# EAGLE library part PC (library Transformer)
Low Power Miniature Transformer | 1VA Power | 115V Input | 10VCT Output Series Datasheet <https://belfuse.com/resources/datasheets/signaltransformer/ds-st-pc-series.pdf>
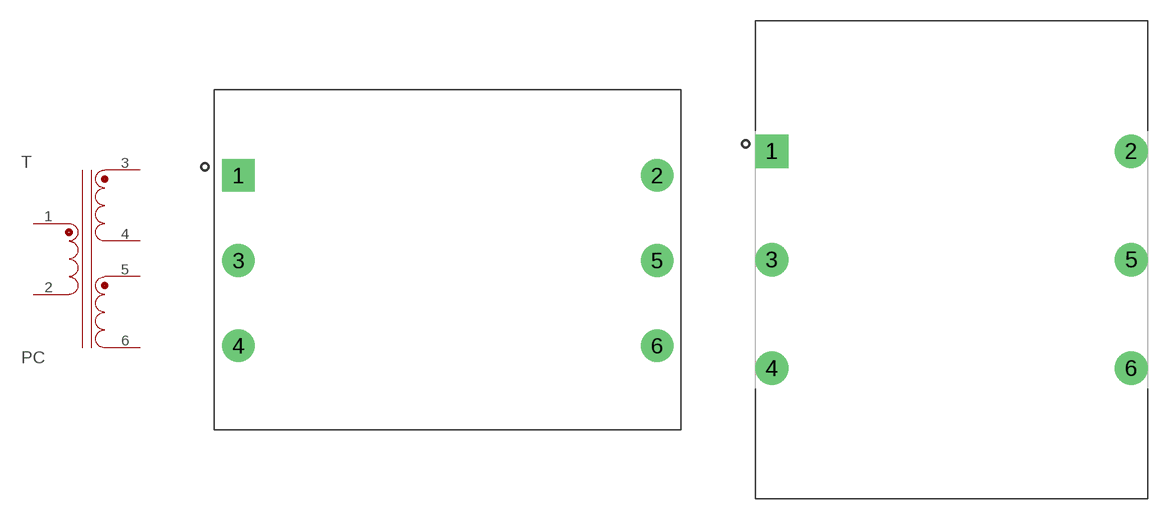
[diagram p4: symbol with the pads of XFMR_PC-1.0; footprints XFMR_PC-1.0, XFMR_PC-1.2]

Designator prefix T

## PC-10-90_1.0 (CATEGORY: Transformer; MANUFACTURER: Signal Transformer; MPN: PC-10-90; PART_STATUS: ACTIVE; ROHS_COMPLIANT: COMPLIANT; SERIES: PC; SUB_CATEGORY: Power; TYPE: Transformers; VALUE: PC-10-90), PC-12-70_1.0 (CATEGORY: Transformer; MANUFACTURER: Signal Transformer; MPN: PC-12-70; PART_STATUS: ACTIVE; ROHS_COMPLIANT: COMPLIANT; SERIES: PC; SUB_CATEGORY: Power; TYPE: Transformers; VALUE: PC-12-70), PC-120-8_1.0 (CATEGORY: Transformer; MANUFACTURER: Signal Transformer; MPN: PC-120-8; PART_STATUS: ACTIVE; ROHS_COMPLIANT: COMPLIANT; SERIES: PC; SUB_CATEGORY: Power; TYPE: Transformers; VALUE: PC-120-8), PC-16-55_1.0 (CATEGORY: Transformer; MANUFACTURER: Signal Transformer; MPN: PC-16-55; PART_STATUS: ACTIVE; ROHS_COMPLIANT: COMPLIANT; SERIES: PC; SUB_CATEGORY: Power; TYPE: Transformers; VALUE: PC-16-55), PC-20-45_1.0 (CATEGORY: Transformer; MANUFACTURER: Signal Transformer; MPN: PC-20-45; PART_STATUS: ACTIVE; ROHS_COMPLIANT: COMPLIANT; SERIES: PC; SUB_CATEGORY: Power; TYPE: Transformers; VALUE: PC-20-45), PC-24-35_1.0 (CATEGORY: Transformer; MANUFACTURER: Signal Transformer; MPN: PC-24-35; PART_STATUS: ACTIVE; ROHS_COMPLIANT: COMPLIANT; SERIES: PC; SUB_CATEGORY: Power; TYPE: Transformers; VALUE: PC-24-35), PC-28-30_1.0 (CATEGORY: Transformer; MANUFACTURER: Signal Transformer; MPN: PC-28-30; PART_STATUS: ACTIVE; ROHS_COMPLIANT: COMPLIANT; SERIES: PC; SUB_CATEGORY: Power; TYPE: Transformers; VALUE: PC-28-30), PC-34-25_1.0 (CATEGORY: Transformer; MANUFACTURER: Signal Transformer; MPN: PC-34-25; PART_STATUS: ACTIVE; ROHS_COMPLIANT: COMPLIANT; SERIES: PC; SUB_CATEGORY: Power; TYPE: Transformers; VALUE: PC-34-25), PC-40-20_1.0 (CATEGORY: Transformer; MANUFACTURER: Signal Transformer; MPN: PC-40-20; PART_STATUS: ACTIVE; ROHS_COMPLIANT: COMPLIANT; SERIES: PC; SUB_CATEGORY: Power; TYPE: Transformers; VALUE: PC-40-20), PC-56-15_1.0 (CATEGORY: Transformer; MANUFACTURER: Signal Transformer; MPN: PC-56-15; PART_STATUS: ACTIVE; ROHS_COMPLIANT: COMPLIANT; SERIES: PC; SUB_CATEGORY: Power; TYPE: Transformers; VALUE: PC-56-15)  [XFMR_PC-1.0]
1  1  pas
2  2  pas
3  3  pas
4  4  pas
5  5  pas
6  6  pas

## PC-10-120_1.2 (CATEGORY: Transformer; MANUFACTURER: Signal Transformer; MPN: PC-10-120; PART_STATUS: ACTIVE; ROHS_COMPLIANT: COMPLIANT; SERIES: PC; SUB_CATEGORY: Power; TYPE: TRANSFORMER; VALUE: PC-10-120), PC-12-100_1.2 (CATEGORY: Transformer; MANUFACTURER: Signal Transformer; MPN: PC-12-100; PART_STATUS: ACTIVE; ROHS_COMPLIANT: COMPLIANT; SERIES: PC; SUB_CATEGORY: Power; TYPE: TRANSFORMER; VALUE: PC-12-100), PC-120-10_1.2 (CATEGORY: Transformer; MANUFACTURER: Signal Transformer; MPN: PC-120-10; PART_STATUS: ACTIVE; ROHS_COMPLIANT: COMPLIANT; SERIES: PC; SUB_CATEGORY: Power; TYPE: TRANSFORMER; VALUE: PC-120-10), PC-16-75_1.2 (CATEGORY: Transformer; MANUFACTURER: Signal Transformer; MPN: PC-16-75; PART_STATUS: ACTIVE; ROHS_COMPLIANT: COMPLIANT; SERIES: PC; SUB_CATEGORY: Power; TYPE: TRANSFORMER; VALUE: PC-16-75), PC-20-60_1.2 (CATEGORY: Transformer; MANUFACTURER: Signal Transformer; MPN: PC-20-60; PART_STATUS: ACTIVE; ROHS_COMPLIANT: COMPLIANT; SERIES: PC; SUB_CATEGORY: Power; TYPE: TRANSFORMER; VALUE: PC-20-60), PC-24-50_1.2 (CATEGORY: Transformer; MANUFACTURER: Signal Transformer; MPN: PC-24-50; PART_STATUS: ACTIVE; ROHS_COMPLIANT: COMPLIANT; SERIES: PC; SUB_CATEGORY: Power; TYPE: TRANSFORMER; VALUE: PC-24-50), PC-28-40_1.2 (CATEGORY: Transformer; MANUFACTURER: Signal Transformer; MPN: PC-28-40; PART_STATUS: ACTIVE; ROHS_COMPLIANT: COMPLIANT; SERIES: PC; SUB_CATEGORY: Power; TYPE: TRANSFORMER; VALUE: PC-28-40), PC-34-35_1.2 (CATEGORY: Transformer; MANUFACTURER: Signal Transformer; MPN: PC-34-35; PART_STATUS: ACTIVE; ROHS_COMPLIANT: COMPLIANT; SERIES: PC; SUB_CATEGORY: Power; TYPE: TRANSFORMER; VALUE: PC-34-35), PC-40-30_1.2 (CATEGORY: Transformer; MANUFACTURER: Signal Transformer; MPN: PC-40-30; PART_STATUS: ACTIVE; ROHS_COMPLIANT: COMPLIANT; SERIES: PC; SUB_CATEGORY: Power; TYPE: TRANSFORMER; VALUE: PC-40-30), PC-56-20_1.2 (CATEGORY: Transformer; MANUFACTURER: Signal Transformer; MPN: PC-56-20; PART_STATUS: ACTIVE; ROHS_COMPLIANT: COMPLIANT; SERIES: PC; SUB_CATEGORY: Power; TYPE: TRANSFORMER; VALUE: PC-56-20)  [XFMR_PC-1.2]
Pads as for XFMR_PC-1.0

## PC-10-440_4.4 (CATEGORY: Transformer; MANUFACTURER: Signal Transformer; MPN: PC-10-440; PART_STATUS: ACTIVE; ROHS_COMPLIANT: COMPLIANT; SERIES: PC; SUB_CATEGORY: Power; TYPE: TRANSFORMER; VALUE: PC-10-440), PC-12-350_4.4 (CATEGORY: Transformer; MANUFACTURER: Signal Transformer; MPN: PC-12-350; PART_STATUS: ACTIVE; ROHS_COMPLIANT: COMPLIANT; SERIES: PC; SUB_CATEGORY: Power; TYPE: TRANSFORMER; VALUE: PC-12-350), PC-120-35_4.4 (CATEGORY: Transformer; MANUFACTURER: Signal Transformer; MPN: PC-120-35; PART_STATUS: ACTIVE; ROHS_COMPLIANT: COMPLIANT; SERIES: PC; SUB_CATEGORY: Power; TYPE: TRANSFORMER; VALUE: PC-120-35), PC-16-260_4.4 (CATEGORY: Transformer; MANUFACTURER: Signal Transformer; MPN: PC-16-260; PART_STATUS: ACTIVE; ROHS_COMPLIANT: COMPLIANT; SERIES: PC; SUB_CATEGORY: Power; TYPE: TRANSFORMER; VALUE: PC-16-260), PC-20-220_4.4 (CATEGORY: Transformer; MANUFACTURER: Signal Transformer; MPN: PC-20-220; PART_STATUS: ACTIVE; ROHS_COMPLIANT: COMPLIANT; SERIES: PC; SUB_CATEGORY: Power; TYPE: TRANSFORMER; VALUE: PC-20-220), PC-24-180_4.4 (CATEGORY: Transformer; MANUFACTURER: Signal Transformer; MPN: PC-24-180; PART_STATUS: ACTIVE; ROHS_COMPLIANT: COMPLIANT; SERIES: PC; SUB_CATEGORY: Power; TYPE: TRANSFORMER; VALUE: PC-24-180), PC-28-160_4.4 (CATEGORY: Transformer; MANUFACTURER: Signal Transformer; MPN: PC-28-160; PART_STATUS: ACTIVE; ROHS_COMPLIANT: COMPLIANT; SERIES: PC; SUB_CATEGORY: Power; TYPE: TRANSFORMER; VALUE: PC-28-160), PC-34-125_4.4 (CATEGORY: Transformer; MANUFACTURER: Signal Transformer; MPN: PC-34-125; PART_STATUS: ACTIVE; ROHS_COMPLIANT: COMPLIANT; SERIES: PC; SUB_CATEGORY: Power; TYPE: TRANSFORMER; VALUE: PC-34-125), PC-40-110_4.4 (CATEGORY: Transformer; MANUFACTURER: Signal Transformer; MPN: PC-40-110; PART_STATUS: ACTIVE; ROHS_COMPLIANT: COMPLIANT; SERIES: PC; SUB_CATEGORY: Power; TYPE: TRANSFORMER; VALUE: PC-40-110), PC-56-80_4.4 (CATEGORY: Transformer; MANUFACTURER: Signal Transformer; MPN: PC-56-80; PART_STATUS: ACTIVE; ROHS_COMPLIANT: COMPLIANT; SERIES: PC; SUB_CATEGORY: Power; TYPE: TRANSFORMER; VALUE: PC-56-80)  [XFMR_PC-4.4]
Pads as for XFMR_PC-1.0

## PC-10-1000_10.0 (CATEGORY: Transformer; MANFACTURER: Signal Transformer; MPN: PC-10-1000; PART_STATUS: ACTIVE; ROHS_COMPLIANT: COMPLIANT; SERIES: PC; SUB_CATEGORY: Power; TYPE: TRANSFORMER; VALUE: PC-10-1000), PC-12-800_10.0 (CATEGORY: Transformer; MANFACTURER: Signal Transformer; MPN: PC-12-800; PART_STATUS: ACTIVE; ROHS_COMPLIANT: COMPLIANT; SERIES: PC; SUB_CATEGORY: Power; TYPE: TRANSFORMER; VALUE: PC-12-800), PC-120-85_10.0 (CATEGORY: Transformer; MANFACTURER: Signal Transformer; MPN: PC-120-85; PART_STATUS: ACTIVE; ROHS_COMPLIANT: COMPLIANT; SERIES: PC; SUB_CATEGORY: Power; TYPE: TRANSFORMER; VALUE: PC-120-85), PC-16-640_10.0 (CATEGORY: Transformer; MANFACTURER: Signal Transformer; MPN: PC-16-640; PART_STATUS: ACTIVE; ROHS_COMPLIANT: COMPLIANT; SERIES: PC; SUB_CATEGORY: Power; TYPE: TRANSFORMER; VALUE: PC-16-640), PC-20-500_10.0 (CATEGORY: Transformer; MANFACTURER: Signal Transformer; MPN: PC-20-500; PART_STATUS: ACTIVE; ROHS_COMPLIANT: COMPLIANT; SERIES: PC; SUB_CATEGORY: Power; TYPE: TRANSFORMER; VALUE: PC-20-500), PC-24-450_10.0 (CATEGORY: Transformer; MANFACTURER: Signal Transformer; MPN: PC-24-450; PART_STATUS: ACTIVE; ROHS_COMPLIANT: COMPLIANT; SERIES: PC; SUB_CATEGORY: Power; TYPE: TRANSFORMER; VALUE: PC-24-450), PC-28-360_10.0 (CATEGORY: Transformer; MANFACTURER: Signal Transformer; MPN: PC-28-360; PART_STATUS: ACTIVE; ROHS_COMPLIANT: COMPLIANT; SERIES: PC; SUB_CATEGORY: Power; TYPE: TRANSFORMER; VALUE: PC-28-360), PC-34-300_10.0 (CATEGORY: Transformer; MANFACTURER: Signal Transformer; MPN: PC-34-300; PART_STATUS: ACTIVE; ROHS_COMPLIANT: COMPLIANT; SERIES: PC; SUB_CATEGORY: Power; TYPE: TRANSFORMER; VALUE: PC-34-300), PC-40-250_10.0 (CATEGORY: Transformer; MANFACTURER: Signal Transformer; MPN: PC-40-250; PART_STATUS: ACTIVE; ROHS_COMPLIANT: COMPLIANT; SERIES: PC; SUB_CATEGORY: Power; TYPE: TRANSFORMER; VALUE: PC-40-250), PC-56-180_10.0 (CATEGORY: Transformer; MANFACTURER: Signal Transformer; MPN: PC-56-180; PART_STATUS: ACTIVE; ROHS_COMPLIANT: COMPLIANT; SERIES: PC; SUB_CATEGORY: Power; TYPE: TRANSFORMER; VALUE: PC-56-180)  [XFMR_PC-10.0]
Pads as for XFMR_PC-1.0

## PC-10-2400_24.0 (CATEGORY: Transformer; MANUFACTURER: Signal Transformer; MPN: PC-10-2400; PART_STATUS: ACTIVE; ROHS_COMPLIANT: COMPLIANT; SERIES: PC; SUB_CATEGORY: Power; TYPE: TRANSFORMER; VALUE: PC-10-2400), PC-12-2000_24.0 (CATEGORY: Transformer; MANUFACTURER: Signal Transformer; MPN: PC-12-2000; PART_STATUS: ACTIVE; ROHS_COMPLIANT: COMPLIANT; SERIES: PC; SUB_CATEGORY: Power; TYPE: TRANSFORMER; VALUE: PC-12-2000), PC-120-200_24.0 (CATEGORY: Transformer; MANUFACTURER: Signal Transformer; MPN: PC-120-200; PART_STATUS: ACTIVE; ROHS_COMPLIANT: COMPLIANT; SERIES: PC; SUB_CATEGORY: Power; TYPE: TRANSFORMER; VALUE: PC-120-200), PC-16-1500_24.0 (CATEGORY: Transformer; MANUFACTURER: Signal Transformer; MPN: PC-16-1500; PART_STATUS: ACTIVE; ROHS_COMPLIANT: COMPLIANT; SERIES: PC; SUB_CATEGORY: Power; TYPE: TRANSFORMER; VALUE: PC-16-1500), PC-20-1200_24.0 (CATEGORY: Transformer; MANUFACTURER: Signal Transformer; MPN: PC-20-1200; PART_STATUS: ACTIVE; ROHS_COMPLIANT: COMPLIANT; SERIES: PC; SUB_CATEGORY: Power; TYPE: TRANSFORMER; VALUE: PC-20-1200), PC-24-1000_24.0 (CATEGORY: Transformer; MANUFACTURER: Signal Transformer; MPN: PC-24-1000; PART_STATUS: ACTIVE; ROHS_COMPLIANT: COMPLIANT; SERIES: PC; SUB_CATEGORY: Power; TYPE: TRANSFORMER; VALUE: PC-24-1000), PC-28-800_24.0 (CATEGORY: Transformer; MANUFACTURER: Signal Transformer; MPN: PC-28-800; PART_STATUS: ACTIVE; ROHS_COMPLIANT: COMPLIANT; SERIES: PC; SUB_CATEGORY: Power; TYPE: TRANSFORMER; VALUE: PC-28-800), PC-34-700_24.0 (CATEGORY: Transformer; MANUFACTURER: Signal Transformer; MPN: PC-34-700; PART_STATUS: ACTIVE; ROHS_COMPLIANT: COMPLIANT; SERIES: PC; SUB_CATEGORY: Power; TYPE: TRANSFORMER; VALUE: PC-34-700), PC-40-600_24.0 (CATEGORY: Transformer; MANUFACTURER: Signal Transformer; MPN: PC-40-600; PART_STATUS: ACTIVE; ROHS_COMPLIANT: COMPLIANT; SERIES: PC; SUB_CATEGORY: Power; TYPE: TRANSFORMER; VALUE: PC-40-600), PC-56-420_24.0 (CATEGORY: Transformer; MANUFACTURER: Signal Transformer; MPN: PC-56-420; PART_STATUS: ACTIVE; ROHS_COMPLIANT: COMPLIANT; SERIES: PC; SUB_CATEGORY: Power; TYPE: TRANSFORMER; VALUE: PC-56-420)  [XFMR_PC-24.0]
Pads as for XFMR_PC-1.0

## Footprint XFMR_PC-1.0 (pad centres in mm)
drill 1.62 square: 1 0,0
drill 1.62: 2 31.2,0; 3 0,-6.35; 4 0,-12.7; 5 31.2,-6.35; 6 31.2,-12.7

## Footprint XFMR_PC-1.2 (pad centres in mm)
drill 1.62 square: 1 0,0
drill 1.62: 2 26.2,0; 3 0,-7.92; 4 0,-15.84; 5 26.2,-7.92; 6 26.2,-15.84

## Footprint XFMR_PC-4.4 (pad centres in mm)
drill 1.62 square: 1 0,0
drill 1.62: 2 28.7,0; 3 0,-10.16; 4 0,-20.32; 5 28.7,-10.16; 6 28.7,-20.32

## Footprint XFMR_PC-10.0 (pad centres in mm)
drill 1.62 square: 1 0,0
drill 1.62: 2 33.7,0; 3 0,-10.16; 4 0,-20.32; 5 33.7,-10.16; 6 33.7,-20.32

## Footprint XFMR_PC-24.0 (pad centres in mm)
drill 1.62 square: 1 0,0
drill 1.62: 2 54.1,0; 3 0,-10.16; 4 0,-20.32; 5 54.1,-10.16; 6 54.1,-20.32